# Altium footprint library lead.PcbLib: 42 footprints (part 2 of 3)
Each footprint in its own frame and in the unit in brackets; x right, y up, seen from the top. Pads: shape width x height; smd on the part's side, far side on the other; paste and mask are expansions set on the pad; w line width, h text height; cw(c..) or ccw(c..) is an arc to the next point about the centre after c.
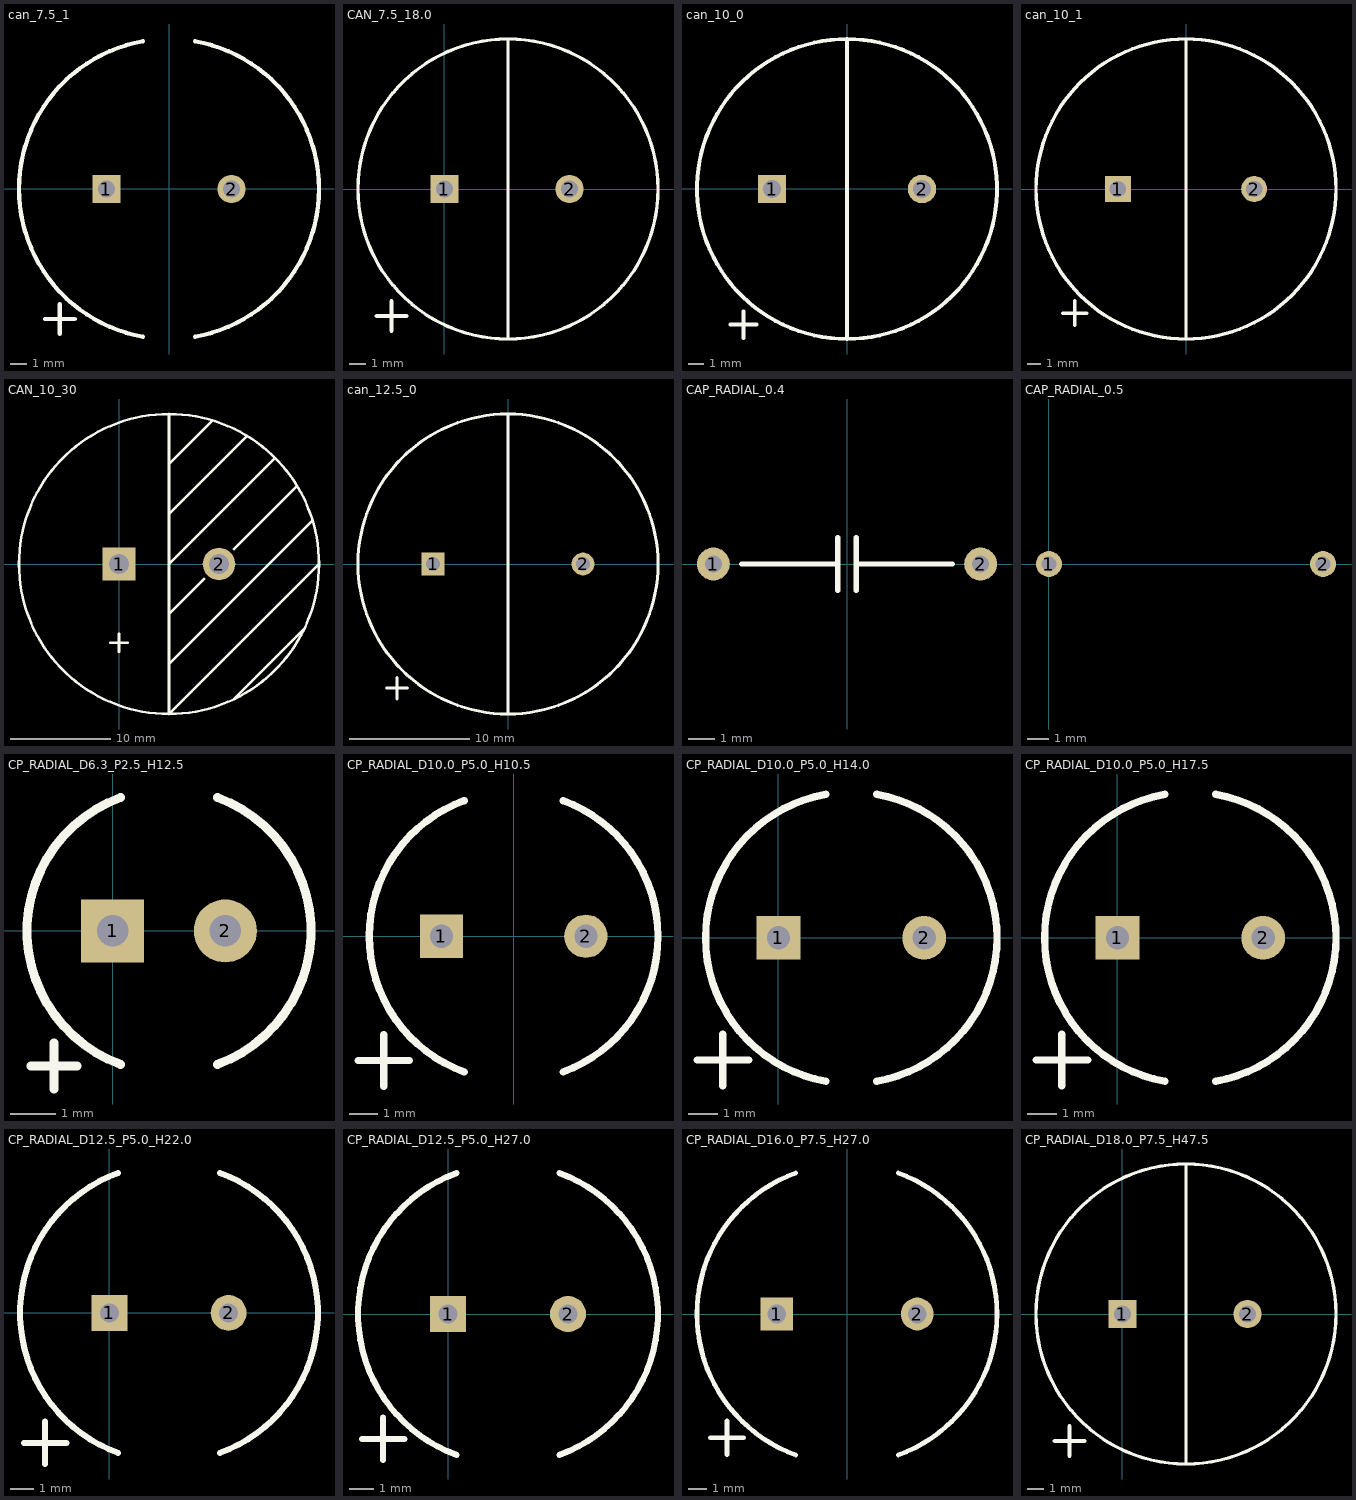
[diagram p1: the footprints below, top view; thin cyan lines are the x and y axes]

## can_7.5_1 [mm] "2 Leaded Al Cap, 7.5mm spacing, 18mm diameter"
height 20
pads (2):
  rect 1.7x1.7 hole 1: 1(-3.75,0)
  round 1.7 hole 1: 2(3.75,0)
Top Overlay:
  lines w0.254: -7.439,-7.8 -5.661,-7.8 ; -6.55,-8.689 -6.55,-6.911 ; -1.563,-8.863 cw(c0,0) -1.563,8.863 ; 1.563,-8.863 ccw(c0,0) 1.563,8.863
3D body: height 18, standoff 0, extent -9,-8.997 9,8.997

## CAN_7.5_18.0 [mm] "7.5mm Lead Spacing, 18mm Dia."
pads (2):
  rect 1.7x1.7 hole 1: 1(0,0)
  round 1.7 hole 1: 2(7.5,0)
Top Overlay:
  circle w0.2: c3.81,0 r9
  lines w0.2: 3.81,-8.89 3.81,8.89
  lines w0.254: -4.064,-7.62 -2.286,-7.62 ; -3.175,-8.509 -3.175,-6.731
3D body: height 47.5, standoff 0, extent -5.2,-8.994 12.8,8.994

## can_10_0 [mm] "2 Leaded Al Cap, 10mm spacing, 20mm diameter"
height 20
pads (2):
  rect 1.9x1.9 hole 1.2: 1(-5,0)
  round 1.9 hole 1.2: 2(5,0)
Top Overlay:
  lines w0.25: 0,-10 0,10
  lines w0.254: -7.789,-9.039 -6.011,-9.039 ; -6.9,-9.928 -6.9,-8.15 ; 0,-10 ccw(c0,0) 0,10 ccw(c0,0) 0,-10
3D body: height 20, standoff 0, extent -10,-10 10,10

## can_10_1 [mm] "2 Leaded Al Cap, 10mm spacing, 22mm diameter"
height 20
pads (2):
  rect 1.9x1.9 hole 1.2: 1(-5,0)
  round 1.9 hole 1.2: 2(5,0)
Top Overlay:
  lines w0.25: 0,-11 0,11
  lines w0.254: -9.039,-9.1 -7.261,-9.1 ; -8.15,-9.989 -8.15,-8.211 ; 0,-11 cw(c0,0) 0,11 cw(c0,0) 0,-11
3D body: height 22, standoff 0, extent -11,-10.997 11,10.997

## CAN_10_30 [mm] "Cap, 10mm lead spacing, 30mm diameter"
pads (2):
  rect 3.25x3.25 hole 2: 1(0,0)
  round 3.25 hole 2: 2(10,0)
Top Overlay:
  lines w0.254: -0.889,-7.874 0.889,-7.874 ; 0,-8.763 0,-6.985 ; 5,-10 19.3,4.3 ; 5,-5 8.5,-1.5 ; 5,0 15.55,10.55 ; 5,5 12.75,12.75 ; 5,10 9.35,14.35 ; 11.5,-13.5 18.5,-6.5 ; 11.5,1.5 17.75,7.75 ; 19.95,-0.05 5,-15 ; 5,-15 cw(c5,0) 5,15 ; 5,-15 ccw(c5,0) 5,15 ; 5,-15 5,15
3D body: height 40, standoff 0, extent -10,-15 20,15

## can_12.5_0 [mm] "2 Leaded Al Cap, 12.5mm spacing, 25mm diameter"
height 20
pads (2):
  rect 1.9x1.9 hole 1.2: 1(-6.25,0)
  round 1.9 hole 1.2: 2(6.25,0)
Top Overlay:
  lines w0.25: 0,-12.5 0,12.5
  lines w0.254: -10.139,-10.35 -8.361,-10.35 ; -9.25,-11.239 -9.25,-9.461 ; 0,-12.5 ccw(c0,0) 0,12.5 ccw(c0,0) 0,-12.5
3D body: height 49.99, standoff 0, extent -12.422,-12.44 12.47,12.44
3D body: height 0.25, standoff -26.8, extent -12.473,0 -12.473,0

## CAP_RADIAL_0.4 [mm] "Like the 0.1uF's in the Glennan Circuits Lab"
pads (2):
  round 1.25 hole 0.65: 1(-5.08,0) 2(5.08,0)
Top Overlay:
  lines w0.2: -4,0 -0.35,0 ; -0.35,-1 -0.35,1 ; 0.35,-1 0.35,1 ; 0.35,0 4,0
3D body "CAP_RADIAL_0.4.SLDPRT": height 7.6, standoff -3.9, extent -5.5,-1.5 5.5,1.499

## CAP_RADIAL_0.5 [mm] "Radial capacitor, 0.5\" lead spacing"
pads (2):
  round 1.2 hole 0.7: 1(0,0) 2(12.7,0)

## CP_RADIAL_D6.3_P2.5_H12.5 [mm] "Radial Cap, 2.5mm spacing, 6.3mm diameter, 12.5mm height"
height 20
pads (2):
  rect 1.4x1.4 hole 0.7: 1(0,0)
  round 1.4 hole 0.7: 2(2.5,0)
Top Overlay:
  lines w0.2: -1.808,-3 -0.792,-3 ; -1.3,-3.508 -1.3,-2.492 ; 0.173,-2.96 cw(c1.25,0) 0.173,2.96 ; 2.327,-2.96 ccw(c1.25,0) 2.327,2.96
3D body: height 12.5, standoff 0, extent -1.9,-3.147 4.4,3.147

## CP_RADIAL_D10.0_P5.0_H10.5 [mm] "2 Leaded Al Cap, 5mm spacing, 10.0mm diameter"
height 20
pads (2):
  rect 1.5x1.5 hole 0.8: 1(-2.5,0)
  round 1.5 hole 0.8: 2(2.5,0)
Top Overlay:
  lines w0.254: -5.389,-4.3 -3.611,-4.3 ; -4.5,-5.189 -4.5,-3.411 ; -1.71,-4.698 cw(c0,0) -1.71,4.698 ; 1.71,-4.698 ccw(c0,0) 1.71,4.698
3D body: height 10.5, standoff 0, extent -5,-5 5,5

## CP_RADIAL_D10.0_P5.0_H14.0 [mm] "2 Leaded Al Cap, 5mm spacing, 10mm diameter"
height 20
pads (2):
  rect 1.5x1.5 hole 0.8: 1(0,0)
  round 1.5 hole 0.8: 2(5,0)
Top Overlay:
  lines w0.254: -2.794,-4.191 -1.016,-4.191 ; -1.905,-5.08 -1.905,-3.302 ; 1.632,-4.924 cw(c2.5,0) 1.632,4.924 ; 3.368,-4.924 ccw(c2.5,0) 3.368,4.924
3D body: height 12.5, standoff 0, extent -2.46,-5 7.54,5
3D body: height 0.25, standoff -26.8, extent -2.54,0 -2.54,0

## CP_RADIAL_D10.0_P5.0_H17.5 [mm] "2 Leaded Al Cap, 5mm spacing, 10mm diameter"
height 20
pads (2):
  rect 1.5x1.5 hole 0.8: 1(0,0)
  round 1.5 hole 0.8: 2(5,0)
Top Overlay:
  lines w0.254: -2.794,-4.191 -1.016,-4.191 ; -1.905,-5.08 -1.905,-3.302 ; 1.632,-4.924 cw(c2.5,0) 1.632,4.924 ; 3.368,-4.924 ccw(c2.5,0) 3.368,4.924
3D body: height 0.25, standoff -26.8, extent -2.54,0 -2.54,0
3D body: height 17.5, standoff 0, extent -2.46,-5 7.54,5

## CP_RADIAL_D12.5_P5.0_H22.0 [mm] "2 Leaded Al Cap, 5mm spacing, 12.5mm diameter"
height 20
pads (2):
  rect 1.5x1.5 hole 0.8: 1(0,0)
  round 1.5 hole 0.8: 2(5,0)
Top Overlay:
  lines w0.254: -3.589,-5.45 -1.811,-5.45 ; -2.7,-6.339 -2.7,-4.561 ; 0.362,-5.873 cw(c2.5,0) 0.362,5.873 ; 4.638,-5.873 ccw(c2.5,0) 4.638,5.873
3D body: height 22, standoff 0, extent -3.75,-6.247 8.75,6.247

## CP_RADIAL_D12.5_P5.0_H27.0 [mm] "2 Leaded Al Cap, 5mm spacing, 12.5mm diameter"
height 20
pads (2):
  rect 1.5x1.5 hole 0.8: 1(0,0)
  round 1.5 hole 0.8: 2(5,0)
Top Overlay:
  lines w0.254: -3.589,-5.2 -1.811,-5.2 ; -2.7,-6.089 -2.7,-4.311 ; 0.362,-5.873 cw(c2.5,0) 0.362,5.873 ; 4.638,-5.873 ccw(c2.5,0) 4.638,5.873
3D body: height 27, standoff 0, extent -3.75,-6.246 8.75,6.247

## CP_RADIAL_D16.0_P7.5_H27.0 [mm]
pads (2):
  rect 1.75x1.75 hole 1: 1(-3.75,0)
  round 1.75 hole 1: 2(3.75,0)
Top Overlay:
  lines w0.254: -7.289,-6.6 -5.511,-6.6 ; -6.4,-7.489 -6.4,-5.711 ; -2.736,-7.518 cw(c0,0) -2.736,7.518 ; 2.736,-7.518 ccw(c0,0) 2.736,7.518
3D body: height 27, standoff 0, extent -8,-8 8,8

## CP_RADIAL_D18.0_P7.5_H47.5 [mm] "7.5mm Lead Spacing, 18mm Dia., 47.5mm Height"
pads (2):
  rect 1.7x1.7 hole 1: 1(0,0)
  round 1.7 hole 1: 2(7.5,0)
Top Overlay:
  circle w0.2: c3.81,0 r9
  lines w0.2: 3.81,-8.89 3.81,8.89
  lines w0.254: -4.064,-7.62 -2.286,-7.62 ; -3.175,-8.509 -3.175,-6.731